# EAGLE library part 5VLX50FF324 (library xilinx_spartan3_virtex4_and_5)
Xilinx FPGA
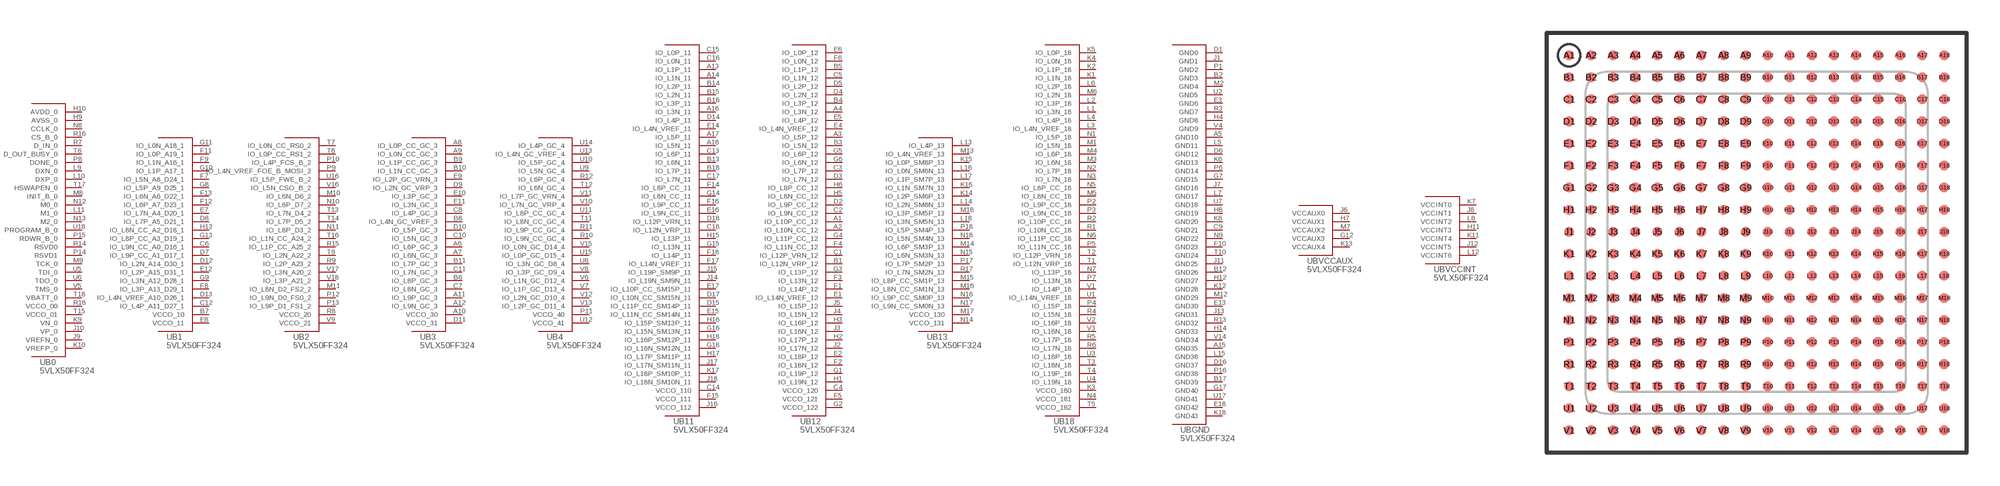
[diagram p93: symbol with the pads of FF324; footprint FF324]

Designator prefix U; gates B0=5VLX50FF324_0 B1=5VLX50FF324_1 B2=5VLX50FF324_2 B3=5VLX50FF324_3 B4=5VLX50FF324_4 B11=5VLX50FF324_11 B12=5VLX50FF324_12 B13=5VLX50FF324_13 B18=5VLX50FF324_18 BGND=5VLX50FF324_GND BVCCAUX=5VLX50FF324_VCCAUX BVCCINT=5VLX50FF324_VCCINT

## 5VLX50FF324  [FF324]
A1  B12:IO_L10P_CC_12
A2  B12:IO_L10N_CC_12
A3  B12:IO_L5P_12
A4  B12:IO_L3N_12
A5  BGND:GND10  pas
A6  B3:IO_L6P_GC_3
A7  B3:IO_L6N_GC_3
A8  B3:IO_L0P_CC_GC_3
A9  B3:IO_L0N_CC_GC_3
A10  B3:VCCO_30  pas
A11  B3:IO_L9P_GC_3
A12  B3:IO_L9N_GC_3
A13  B11:IO_L1P_11
A14  B11:IO_L1N_11
A15  BGND:GND35  pas
A16  B11:IO_L3N_11
A17  B11:IO_L5P_11
A18  B11:IO_L5N_11
B1  B12:IO_L12N_VRP_12
B2  BGND:GND3  pas
B3  B12:IO_L5N_12
B4  B12:IO_L3P_12
B5  B12:IO_L1P_12
B6  B3:IO_L8P_GC_3
B7  B1:VCCO_10  pas
B8  B3:IO_L4N_GC_VREF_3
B9  B3:IO_L1P_CC_GC_3
B10  B3:IO_L1N_CC_GC_3
B11  B3:IO_L7P_GC_3
B12  BGND:GND26  pas
B13  B11:IO_L6N_11
B14  B11:IO_L2P_11
B15  B11:IO_L2N_11
B16  B11:IO_L3P_11
B17  BGND:GND39  pas
B18  B11:IO_L7P_11
C1  B12:IO_L12P_VRN_12
C2  B12:IO_L9N_CC_12
C3  B12:IO_L7P_12
C4  B12:VCCO_120  pas
C5  B12:IO_L1N_12
C6  B1:IO_L9N_CC_A0_D16_1
C7  B3:IO_L8N_GC_3
C8  B3:IO_L4P_GC_3
C9  BGND:GND21  pas
C10  B3:IO_L5N_GC_3
C11  B3:IO_L7N_GC_3
C12  B1:IO_L4P_A11_D27_1
C13  B11:IO_L6P_11
C14  B11:VCCO_110  pas
C15  B11:IO_L0P_11
C16  B11:IO_L0N_11
C17  B11:IO_L7N_11
C18  B11:IO_L12N_VRP_11
D1  BGND:GND0  pas
D2  B12:IO_L9P_CC_12
D3  B12:IO_L7N_12
D4  B12:IO_L2N_12
D5  B12:IO_L2P_12
D6  BGND:GND12  pas
D7  B1:IO_L9P_CC_A1_D17_1
D8  B1:IO_L7P_A5_D21_1
D9  B3:IO_L2N_GC_VRP_3
D10  B3:IO_L5P_GC_3
D11  B3:VCCO_31  pas
D12  B1:IO_L2N_A14_D30_1
D13  B1:IO_L4N_VREF_A10_D26_1
D14  B11:IO_L4P_11
D15  B11:IO_L11P_CC_SM14P_11
D16  BGND:GND37  pas
D17  B11:IO_L10N_CC_SM15N_11
D18  B11:IO_L12P_VRN_11
E1  B12:IO_L14N_VREF_12
E2  B12:IO_L18P_12
E3  BGND:GND6  pas
E4  B12:IO_L4N_VREF_12
E5  B12:IO_L4P_12
E6  B12:IO_L0P_12
E7  B1:IO_L7N_A4_D20_1
E8  B1:VCCO_11  pas
E9  B3:IO_L2P_GC_VRN_3
E10  B3:IO_L3P_GC_3
E11  B3:IO_L3N_GC_3
E12  B1:IO_L2P_A15_D31_1
E13  BGND:GND30  pas
E14  B11:IO_L4N_VREF_11
E15  B11:IO_L11N_CC_SM14N_11
E16  B11:IO_L9N_CC_11
E17  B11:IO_L10P_CC_SM15P_11
E18  BGND:GND42  pas
F1  B12:IO_L14P_12
F2  B12:IO_L18N_12
F3  B12:IO_L13N_12
F4  B12:IO_L11N_CC_12
F5  B12:VCCO_121  pas
F6  B12:IO_L0N_12
F7  B1:IO_L5N_A8_D24_1
F8  B1:IO_L3P_A13_D29_1
F9  B1:IO_L1N_A16_1
F10  BGND:GND23  pas
F11  B1:IO_L0P_A19_1
F12  B1:IO_L6P_A7_D23_1
F13  B1:IO_L6N_A6_D22_1
F14  B11:IO_L8P_CC_11
F15  B11:VCCO_111  pas
F16  B11:IO_L9P_CC_11
F17  B11:IO_L14N_VREF_11
F18  B11:IO_L14P_11
G1  B12:IO_L19P_12
G2  B12:VCCO_122  pas
G3  B12:IO_L13P_12
G4  B12:IO_L11P_CC_12
G5  B12:IO_L6P_12
G6  B12:IO_L6N_12
G7  BGND:GND15  pas
G8  B1:IO_L5P_A9_D25_1
G9  B1:IO_L3N_A12_D28_1
G10  B1:IO_L1P_A17_1
G11  B1:IO_L0N_A18_1
G12  BVCCAUX:VCCAUX3  pas
G13  B1:IO_L8P_CC_A3_D19_1
G14  B11:IO_L8N_CC_11
G15  B11:IO_L13N_11
G16  B11:IO_L15N_SM13N_11
G17  BGND:GND40  pas
G18  B11:IO_L16N_SM12N_11
H1  B12:IO_L19N_12
H2  B12:IO_L17P_12
H3  B12:IO_L16P_12
H4  BGND:GND8  pas
H5  B12:IO_L8N_CC_12
H6  B12:IO_L8P_CC_12
H7  BVCCAUX:VCCAUX1  pas
H8  BGND:GND19  pas
H9  B0:AVSS_0
H10  B0:AVDD_0
H11  BVCCINT:VCCINT3  pas
H12  BGND:GND27  pas
H13  B1:IO_L8N_CC_A2_D18_1
H14  BGND:GND33  pas
H15  B11:IO_L13P_11
H16  B11:IO_L15P_SM13P_11
H17  B11:IO_L17P_SM11P_11
H18  B11:IO_L16P_SM12P_11
J1  BGND:GND1  pas
J2  B12:IO_L17N_12
J3  B12:IO_L16N_12
J4  B12:IO_L15N_12
J5  B12:IO_L15P_12
J6  BVCCAUX:VCCAUX0  pas
J7  BGND:GND16  pas
J8  BVCCINT:VCCINT1  pas
J9  B0:VREFN_0
J10  B0:VP_0
J11  BGND:GND25  pas
J12  BVCCINT:VCCINT5  pas
J13  BGND:GND31  pas
J14  B11:IO_L19N_SM9N_11
J15  B11:IO_L19P_SM9P_11
J16  B11:VCCO_112  pas
J17  B11:IO_L17N_SM11N_11
J18  B11:IO_L18N_SM10N_11
K1  B18:IO_L1N_18
K2  B18:IO_L1P_18
K3  B18:VCCO_180  pas
K4  B18:IO_L0N_18
K5  B18:IO_L0P_18
K6  BGND:GND13  pas
K7  BVCCINT:VCCINT0  pas
K8  BGND:GND20  pas
K9  B0:VN_0
K10  B0:VREFP_0
K11  BVCCINT:VCCINT4  pas
K12  BGND:GND28  pas
K13  BVCCAUX:VCCAUX4  pas
K14  B13:IO_L2P_SM6P_13
K15  B13:IO_L0P_SM8P_13
K16  B13:IO_L1N_SM7N_13
K17  B11:IO_L18P_SM10P_11
K18  BGND:GND43  pas
L1  B18:IO_L3N_18
L2  B18:IO_L3P_18
L3  B18:IO_L4N_VREF_18
L4  B18:IO_L4P_18
L5  BGND:GND11  pas
L6  B18:IO_L2P_18
L7  BGND:GND17  pas
L8  BVCCINT:VCCINT2  pas
L9  B0:DXN_0
L10  B0:DXP_0
L11  B0:M1_0
L12  BVCCINT:VCCINT6  pas
L13  B13:IO_L4P_13
L14  B13:IO_L2N_SM6N_13
L15  BGND:GND36  pas
L16  B13:IO_L0N_SM8N_13
L17  B13:IO_L1P_SM7P_13
L18  B13:IO_L3N_SM5N_13
M1  B18:IO_L5N_18
M2  BGND:GND4  pas
M3  B18:IO_L6N_18
M4  B18:IO_L6P_18
M5  B18:IO_L8N_CC_18
M6  B18:IO_L2N_18
M7  BVCCAUX:VCCAUX2  pas
M8  B0:INIT_B_0
M9  B0:TCK_0
M10  B2:IO_L6N_D6_2
M11  B2:IO_L8N_D2_FS2_2
M12  BGND:GND29  pas
M13  B13:IO_L4N_VREF_13
M14  B13:IO_L6P_SM3P_13
M15  B13:IO_L8P_CC_SM1P_13
M16  B13:IO_L8N_CC_SM1N_13
M17  B13:VCCO_130  pas
M18  B13:IO_L3P_SM5P_13
N1  B18:IO_L5P_18
N2  B18:IO_L7P_18
N3  B18:IO_L7N_18
N4  B18:VCCO_181  pas
N5  B18:IO_L8P_CC_18
N6  B18:IO_L11P_CC_18
N7  B18:IO_L13P_18
N8  B0:CCLK_0
N9  BGND:GND22  pas
N10  B2:IO_L6P_D7_2
N11  B2:IO_L8P_D3_2
N12  B0:M0_0
N13  B0:M2_0
N14  B13:VCCO_131  pas
N15  B13:IO_L6N_SM3N_13
N16  B13:IO_L9P_CC_SM0P_13
N17  B13:IO_L9N_CC_SM0N_13
N18  B13:IO_L5N_SM4N_13
P1  BGND:GND2  pas
P2  B18:IO_L9P_CC_18
P3  B18:IO_L9N_CC_18
P4  B18:IO_L15P_18
P5  B18:IO_L11N_CC_18
P6  BGND:GND14  pas
P7  B18:IO_L13N_18
P8  B0:DONE_0
P9  B2:IO_L4N_VREF_FOE_B_MOSI_2
P10  B2:IO_L4P_FCS_B_2
P11  B4:VCCO_40  pas
P12  B2:IO_L9N_D0_FS0_2
P13  B2:IO_L9P_D1_FS1_2
P14  B0:RSVD1
P15  B0:RDWR_B_0
P16  BGND:GND38  pas
P17  B13:IO_L7P_SM2P_13
P18  B13:IO_L5P_SM4P_13
R1  B18:IO_L10N_CC_18
R2  B18:IO_L10P_CC_18
R3  BGND:GND7  pas
R4  B18:IO_L15N_18
R5  B18:IO_L17P_18
R6  B18:IO_L17N_18
R7  B0:D_IN_0
R8  B2:VCCO_20  pas
R9  B2:IO_L2P_A23_2
R10  B4:IO_L9N_CC_GC_4
R11  B4:IO_L9P_CC_GC_4
R12  B4:IO_L6P_GC_4
R13  BGND:GND32  pas
R14  B0:RSVD0
R15  B2:IO_L1P_CC_A25_2
R16  B0:CS_B_0
R17  B13:IO_L7N_SM2N_13
R18  B0:VCCO_00  pas
T1  B18:IO_L12N_VRP_18
T2  B18:IO_L12P_VRN_18
T3  B18:IO_L18N_18
T4  B18:IO_L19P_18
T5  B18:VCCO_182  pas
T6  B0:D_OUT_BUSY_0
T7  B2:IO_L0N_CC_RS0_2
T8  B2:IO_L0P_CC_RS1_2
T9  B2:IO_L2N_A22_2
T10  BGND:GND24  pas
T11  B4:IO_L8N_CC_GC_4
T12  B4:IO_L6N_GC_4
T13  B2:IO_L7N_D4_2
T14  B2:IO_L7P_D5_2
T15  B0:VCCO_01  pas
T16  B2:IO_L1N_CC_A24_2
T17  B0:HSWAPEN_0
T18  B0:VBATT_0
U1  B18:IO_L14N_VREF_18
U2  BGND:GND5  pas
U3  B18:IO_L18P_18
U4  B18:IO_L19N_18
U5  B0:TDI_0
U6  B0:TDO_0
U7  BGND:GND18  pas
U8  B4:IO_L3N_GC_D8_4
U9  B4:IO_L5N_GC_4
U10  B4:IO_L5P_GC_4
U11  B4:IO_L8P_CC_GC_4
U12  B4:VCCO_41  pas
U13  B4:IO_L4N_GC_VREF_4
U14  B4:IO_L4P_GC_4
U15  B4:IO_L0P_GC_D15_4
U16  B2:IO_L5P_FWE_B_2
U17  BGND:GND41  pas
U18  B0:PROGRAM_B_0
V1  B18:IO_L14P_18
V2  B18:IO_L16P_18
V3  B18:IO_L16N_18
V4  BGND:GND9  pas
V5  B0:TMS_0
V6  B4:IO_L1N_GC_D12_4
V7  B4:IO_L1P_GC_D13_4
V8  B4:IO_L3P_GC_D9_4
V9  B2:VCCO_21  pas
V10  B4:IO_L7N_GC_VRP_4
V11  B4:IO_L7P_GC_VRN_4
V12  B4:IO_L2N_GC_D10_4
V13  B4:IO_L2P_GC_D11_4
V14  BGND:GND34  pas
V15  B4:IO_L0N_GC_D14_4
V16  B2:IO_L5N_CSO_B_2
V17  B2:IO_L3N_A20_2
V18  B2:IO_L3P_A21_2

## Footprint FF324 (pad centres in mm)
smd 0.45 x 0.45: A1 -8.5,8.5; A2 -7.5,8.5; A3 -6.5,8.5; A4 -5.5,8.5; A5 -4.5,8.5; A6 -3.5,8.5; A7 -2.5,8.5; A8 -1.5,8.5; A9 -0.5,8.5; A10 0.5,8.5; A11 1.5,8.5; A12 2.5,8.5; A13 3.5,8.5; A14 4.5,8.5; A15 5.5,8.5; A16 6.5,8.5; A17 7.5,8.5; A18 8.5,8.5; B1 -8.5,7.5; B2 -7.5,7.5; B3 -6.5,7.5; B4 -5.5,7.5; B5 -4.5,7.5; B6 -3.5,7.5; B7 -2.5,7.5; B8 -1.5,7.5; B9 -0.5,7.5; B10 0.5,7.5; B11 1.5,7.5; B12 2.5,7.5; B13 3.5,7.5; B14 4.5,7.5; B15 5.5,7.5; B16 6.5,7.5; B17 7.5,7.5; B18 8.5,7.5; C1 -8.5,6.5; C2 -7.5,6.5; C3 -6.5,6.5; C4 -5.5,6.5; C5 -4.5,6.5; C6 -3.5,6.5; C7 -2.5,6.5; C8 -1.5,6.5; C9 -0.5,6.5; C10 0.5,6.5; C11 1.5,6.5; C12 2.5,6.5; C13 3.5,6.5; C14 4.5,6.5; C15 5.5,6.5; C16 6.5,6.5; C17 7.5,6.5; C18 8.5,6.5; D1 -8.5,5.5; D2 -7.5,5.5; D3 -6.5,5.5; D4 -5.5,5.5; D5 -4.5,5.5; D6 -3.5,5.5; D7 -2.5,5.5; D8 -1.5,5.5; D9 -0.5,5.5; D10 0.5,5.5; D11 1.5,5.5; D12 2.5,5.5; D13 3.5,5.5; D14 4.5,5.5; D15 5.5,5.5; D16 6.5,5.5; D17 7.5,5.5; D18 8.5,5.5; E1 -8.5,4.5; E2 -7.5,4.5; E3 -6.5,4.5; E4 -5.5,4.5; E5 -4.5,4.5; E6 -3.5,4.5; E7 -2.5,4.5; E8 -1.5,4.5; E9 -0.5,4.5; E10 0.5,4.5; E11 1.5,4.5; E12 2.5,4.5; E13 3.5,4.5; E14 4.5,4.5; E15 5.5,4.5; E16 6.5,4.5; E17 7.5,4.5; E18 8.5,4.5; F1 -8.5,3.5; F2 -7.5,3.5; F3 -6.5,3.5; F4 -5.5,3.5; F5 -4.5,3.5; F6 -3.5,3.5; F7 -2.5,3.5; F8 -1.5,3.5; F9 -0.5,3.5; F10 0.5,3.5; F11 1.5,3.5; F12 2.5,3.5; F13 3.5,3.5; F14 4.5,3.5; F15 5.5,3.5; F16 6.5,3.5; F17 7.5,3.5; F18 8.5,3.5; G1 -8.5,2.5; G2 -7.5,2.5; G3 -6.5,2.5; G4 -5.5,2.5; G5 -4.5,2.5; G6 -3.5,2.5; G7 -2.5,2.5; G8 -1.5,2.5; G9 -0.5,2.5; G10 0.5,2.5; G11 1.5,2.5; G12 2.5,2.5; G13 3.5,2.5; G14 4.5,2.5; G15 5.5,2.5; G16 6.5,2.5; G17 7.5,2.5; G18 8.5,2.5; H1 -8.5,1.5; H2 -7.5,1.5; H3 -6.5,1.5; H4 -5.5,1.5; H5 -4.5,1.5; H6 -3.5,1.5; H7 -2.5,1.5; H8 -1.5,1.5; H9 -0.5,1.5; H10 0.5,1.5; H11 1.5,1.5; H12 2.5,1.5; H13 3.5,1.5; H14 4.5,1.5; H15 5.5,1.5; H16 6.5,1.5; H17 7.5,1.5; H18 8.5,1.5; J1 -8.5,0.5; J2 -7.5,0.5; J3 -6.5,0.5; J4 -5.5,0.5; J5 -4.5,0.5; J6 -3.5,0.5; J7 -2.5,0.5; J8 -1.5,0.5; J9 -0.5,0.5; J10 0.5,0.5; J11 1.5,0.5; J12 2.5,0.5; J13 3.5,0.5; J14 4.5,0.5; J15 5.5,0.5; J16 6.5,0.5; J17 7.5,0.5; J18 8.5,0.5; K1 -8.5,-0.5; K2 -7.5,-0.5; K3 -6.5,-0.5; K4 -5.5,-0.5; K5 -4.5,-0.5; K6 -3.5,-0.5; K7 -2.5,-0.5; K8 -1.5,-0.5; K9 -0.5,-0.5; K10 0.5,-0.5; K11 1.5,-0.5; K12 2.5,-0.5; K13 3.5,-0.5; K14 4.5,-0.5; K15 5.5,-0.5; K16 6.5,-0.5; K17 7.5,-0.5; K18 8.5,-0.5; L1 -8.5,-1.5; L2 -7.5,-1.5; L3 -6.5,-1.5; L4 -5.5,-1.5; L5 -4.5,-1.5; L6 -3.5,-1.5; L7 -2.5,-1.5; L8 -1.5,-1.5; L9 -0.5,-1.5; L10 0.5,-1.5; L11 1.5,-1.5; L12 2.5,-1.5; L13 3.5,-1.5; L14 4.5,-1.5; L15 5.5,-1.5; L16 6.5,-1.5; L17 7.5,-1.5; L18 8.5,-1.5; M1 -8.5,-2.5; M2 -7.5,-2.5; M3 -6.5,-2.5; M4 -5.5,-2.5; M5 -4.5,-2.5; M6 -3.5,-2.5; M7 -2.5,-2.5; M8 -1.5,-2.5; M9 -0.5,-2.5; M10 0.5,-2.5; M11 1.5,-2.5; M12 2.5,-2.5; M13 3.5,-2.5; M14 4.5,-2.5; M15 5.5,-2.5; M16 6.5,-2.5; M17 7.5,-2.5; M18 8.5,-2.5; N1 -8.5,-3.5; N2 -7.5,-3.5; N3 -6.5,-3.5; N4 -5.5,-3.5; N5 -4.5,-3.5; N6 -3.5,-3.5; N7 -2.5,-3.5; N8 -1.5,-3.5; N9 -0.5,-3.5; N10 0.5,-3.5; N11 1.5,-3.5; N12 2.5,-3.5; N13 3.5,-3.5; N14 4.5,-3.5; N15 5.5,-3.5; N16 6.5,-3.5; N17 7.5,-3.5; N18 8.5,-3.5; P1 -8.5,-4.5; P2 -7.5,-4.5; P3 -6.5,-4.5; P4 -5.5,-4.5; P5 -4.5,-4.5; P6 -3.5,-4.5; P7 -2.5,-4.5; P8 -1.5,-4.5; P9 -0.5,-4.5; P10 0.5,-4.5; P11 1.5,-4.5; P12 2.5,-4.5; P13 3.5,-4.5; P14 4.5,-4.5; P15 5.5,-4.5; P16 6.5,-4.5; P17 7.5,-4.5; P18 8.5,-4.5; R1 -8.5,-5.5; R2 -7.5,-5.5; R3 -6.5,-5.5; R4 -5.5,-5.5; R5 -4.5,-5.5; R6 -3.5,-5.5; R7 -2.5,-5.5; R8 -1.5,-5.5; R9 -0.5,-5.5; R10 0.5,-5.5; R11 1.5,-5.5; R12 2.5,-5.5; R13 3.5,-5.5; R14 4.5,-5.5; R15 5.5,-5.5; R16 6.5,-5.5; R17 7.5,-5.5; R18 8.5,-5.5; T1 -8.5,-6.5; T2 -7.5,-6.5; T3 -6.5,-6.5; T4 -5.5,-6.5; T5 -4.5,-6.5; T6 -3.5,-6.5; T7 -2.5,-6.5; T8 -1.5,-6.5; T9 -0.5,-6.5; T10 0.5,-6.5; T11 1.5,-6.5; T12 2.5,-6.5; T13 3.5,-6.5; T14 4.5,-6.5; T15 5.5,-6.5; T16 6.5,-6.5; T17 7.5,-6.5; T18 8.5,-6.5; U1 -8.5,-7.5; U2 -7.5,-7.5; U3 -6.5,-7.5; U4 -5.5,-7.5; U5 -4.5,-7.5; U6 -3.5,-7.5; U7 -2.5,-7.5; U8 -1.5,-7.5; U9 -0.5,-7.5; U10 0.5,-7.5; U11 1.5,-7.5; U12 2.5,-7.5; U13 3.5,-7.5; U14 4.5,-7.5; U15 5.5,-7.5; U16 6.5,-7.5; U17 7.5,-7.5; U18 8.5,-7.5; V1 -8.5,-8.5; V2 -7.5,-8.5; V3 -6.5,-8.5; V4 -5.5,-8.5; V5 -4.5,-8.5; V6 -3.5,-8.5; V7 -2.5,-8.5; V8 -1.5,-8.5; V9 -0.5,-8.5; V10 0.5,-8.5; V11 1.5,-8.5; V12 2.5,-8.5; V13 3.5,-8.5; V14 4.5,-8.5; V15 5.5,-8.5; V16 6.5,-8.5; V17 7.5,-8.5; V18 8.5,-8.5